# EAGLE library part TK90_EDGE (library tk90)
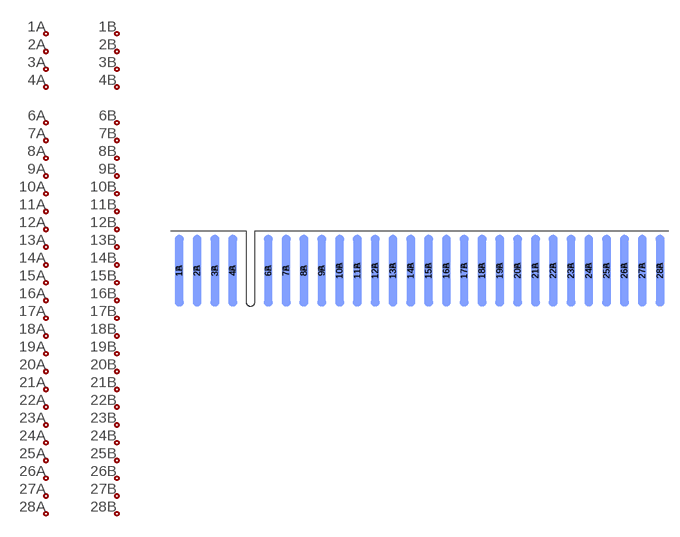
[diagram p3: symbol with the pads of TK-EDGE; footprint TK-EDGE]

Designator prefix -; gates G$1=EDGE-PIN G$2=EDGE-PIN G$3=EDGE-PIN G$4=EDGE-PIN G$5=EDGE-PIN G$6=EDGE-PIN G$7=EDGE-PIN G$8=EDGE-PIN G$9=EDGE-PIN G$10=EDGE-PIN G$11=EDGE-PIN G$12=EDGE-PIN G$13=EDGE-PIN G$14=EDGE-PIN G$15=EDGE-PIN G$16=EDGE-PIN G$17=EDGE-PIN G$18=EDGE-PIN G$19=EDGE-PIN G$20=EDGE-PIN G$21=EDGE-PIN G$22=EDGE-PIN G$23=EDGE-PIN G$24=EDGE-PIN G$25=EDGE-PIN G$26=EDGE-PIN G$27=EDGE-PIN G$28=EDGE-PIN G$29=EDGE-PIN G$30=EDGE-PIN G$31=EDGE-PIN G$32=EDGE-PIN G$33=EDGE-PIN G$34=EDGE-PIN G$35=EDGE-PIN G$36=EDGE-PIN G$37=EDGE-PIN G$38=EDGE-PIN G$39=EDGE-PIN G$40=EDGE-PIN G$41=EDGE-PIN G$42=EDGE-PIN G$43=EDGE-PIN G$44=EDGE-PIN G$45=EDGE-PIN G$46=EDGE-PIN G$47=EDGE-PIN G$48=EDGE-PIN G$49=EDGE-PIN G$50=EDGE-PIN G$51=EDGE-PIN G$52=EDGE-PIN G$53=EDGE-PIN G$54=EDGE-PIN

## TK90_EDGE  [TK-EDGE]
1A  G$1:EDGE
1B  G$28:EDGE
2A  G$2:EDGE
2B  G$29:EDGE
3A  G$3:EDGE
3B  G$30:EDGE
4A  G$4:EDGE
4B  G$31:EDGE
6A  G$5:EDGE
6B  G$32:EDGE
7A  G$6:EDGE
7B  G$33:EDGE
8A  G$7:EDGE
8B  G$34:EDGE
9A  G$8:EDGE
9B  G$35:EDGE
10A  G$9:EDGE
10B  G$36:EDGE
11A  G$10:EDGE
11B  G$37:EDGE
12A  G$11:EDGE
12B  G$38:EDGE
13A  G$12:EDGE
13B  G$39:EDGE
14A  G$13:EDGE
14B  G$40:EDGE
15A  G$14:EDGE
15B  G$41:EDGE
16A  G$15:EDGE
16B  G$42:EDGE
17A  G$16:EDGE
17B  G$43:EDGE
18A  G$17:EDGE
18B  G$44:EDGE
19A  G$18:EDGE
19B  G$45:EDGE
20A  G$19:EDGE
20B  G$46:EDGE
21A  G$20:EDGE
21B  G$47:EDGE
22A  G$21:EDGE
22B  G$48:EDGE
23A  G$22:EDGE
23B  G$49:EDGE
24A  G$23:EDGE
24B  G$50:EDGE
25A  G$24:EDGE
25B  G$51:EDGE
26A  G$25:EDGE
26B  G$52:EDGE
27A  G$26:EDGE
27B  G$53:EDGE
28A  G$27:EDGE
28B  G$54:EDGE

## Footprint TK-EDGE (pad centres in mm)
TK90X Edge Connector
smd 1.27 x 10.16 bottom: 1A -10.16,-1.905; 2A -7.62,-1.905; 3A -5.08,-1.905; 4A -2.54,-1.905; 6A 2.54,-1.905; 7A 5.08,-1.905; 8A 7.62,-1.905; 9A 10.16,-1.905; 10A 12.7,-1.905; 11A 15.24,-1.905; 12A 17.78,-1.905; 13A 20.32,-1.905; 14A 22.86,-1.905; 15A 25.4,-1.905; 16A 27.94,-1.905; 17A 30.48,-1.905; 18A 33.02,-1.905; 19A 35.56,-1.905; 20A 38.1,-1.905; 21A 40.64,-1.905; 22A 43.18,-1.905; 23A 45.72,-1.905; 24A 48.26,-1.905; 25A 50.8,-1.905; 26A 53.34,-1.905; 27A 55.88,-1.905; 28A 58.42,-1.905
smd 1.27 x 10.16: 1B -10.16,-1.905; 2B -7.62,-1.905; 3B -5.08,-1.905; 4B -2.54,-1.905; 6B 2.54,-1.905; 7B 5.08,-1.905; 8B 7.62,-1.905; 9B 10.16,-1.905; 10B 12.7,-1.905; 11B 15.24,-1.905; 12B 17.78,-1.905; 13B 20.32,-1.905; 14B 22.86,-1.905; 15B 25.4,-1.905; 16B 27.94,-1.905; 17B 30.48,-1.905; 18B 33.02,-1.905; 19B 35.56,-1.905; 20B 38.1,-1.905; 21B 40.64,-1.905; 22B 43.18,-1.905; 23B 45.72,-1.905; 24B 48.26,-1.905; 25B 50.8,-1.905; 26B 53.34,-1.905; 27B 55.88,-1.905; 28B 58.42,-1.905